# Altium footprint library TSSOP-66.PcbLib: 1 footprints
Each footprint in its own frame and in the unit in brackets; x right, y up, seen from the top. Pads: shape width x height; smd on the part's side, far side on the other; paste and mask are expansions set on the pad; w line width, h text height; cw(c..) or ccw(c..) is an arc to the next point about the centre after c.
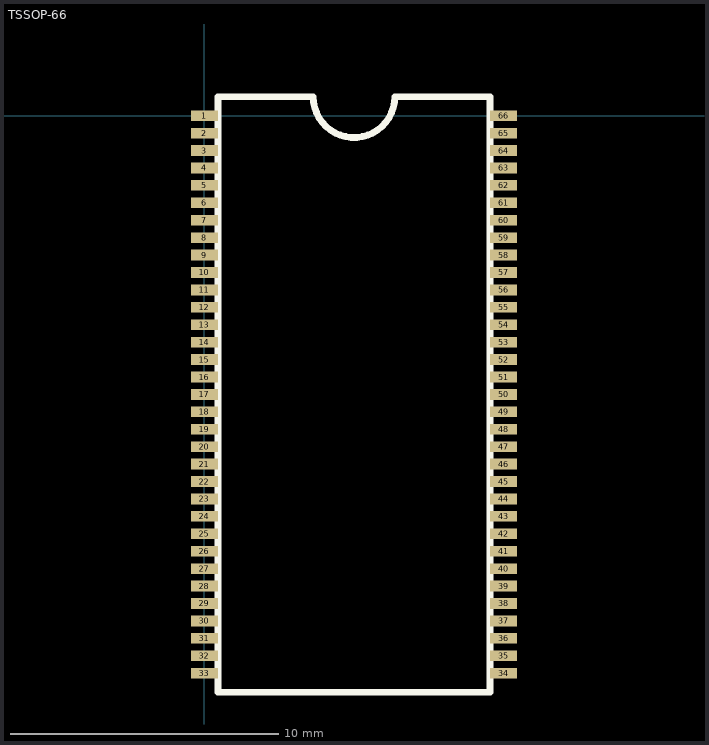
[diagram p0: the footprint, top view; thin cyan lines are the x and y axes]

## TSSOP-66 [mm]
pads (66):
  rect 1x0.4 smd: 1(0,0) 2(0,-0.65) 3(0,-1.3) 4(0,-1.95) 5(0,-2.6) 6(0,-3.25) 7(0,-3.9) 8(0,-4.55) 9(0,-5.2) 10(0,-5.85) 11(0,-6.5) 12(0,-7.15) 13(0,-7.8) 14(0,-8.45) 15(0,-9.1) 16(0,-9.75) 17(0,-10.4) 18(0,-11.05) 19(0,-11.7) 20(0,-12.35) 21(0,-13) 22(0,-13.65) 23(0,-14.3) 24(0,-14.95) 25(0,-15.6) 26(0,-16.25) 27(0,-16.9) 28(0,-17.55) 29(0,-18.2) 30(0,-18.85) 31(0,-19.5) 32(0,-20.15) 33(0,-20.8) 34(11.16,-20.8) 35(11.16,-20.15) 36(11.16,-19.5) 37(11.16,-18.85) 38(11.16,-18.2) 39(11.16,-17.55) 40(11.16,-16.9) 41(11.16,-16.25) 42(11.16,-15.6) 43(11.16,-14.95) 44(11.16,-14.3) 45(11.16,-13.65) 46(11.16,-13) 47(11.16,-12.35) 48(11.16,-11.7) 49(11.16,-11.05) 50(11.16,-10.4) 51(11.16,-9.75) 52(11.16,-9.1) 53(11.16,-8.45) 54(11.16,-7.8) 55(11.16,-7.15) 56(11.16,-6.5) 57(11.16,-5.85) 58(11.16,-5.2) 59(11.16,-4.55) 60(11.16,-3.9) 61(11.16,-3.25) 62(11.16,-2.6) 63(11.16,-1.95) 64(11.16,-1.3) 65(11.16,-0.65) 66(11.16,0)
Top Overlay:
  lines w0.254: 0.5,-21.51 0.5,0.71 4.056,0.71 ccw(c5.58,0.71) 7.104,0.71 10.66,0.71 10.66,-21.51 0.5,-21.51